# Altium schematic symbol library LED_symbol.SchLib: 1 symbol
Pins are listed as number, name and electrical type; pins without a type are passive.

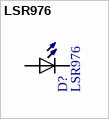
[diagram p0: symbol LSR976]

## LSR976
designator D?
SMD LED [Osram Semiconductors] LSR976 SMD LED; MF: OSRAM Opto; MP: LSR976; Package: 0805 Osram; Price: None; SnapEDA_Link: https://www.snapeda.com/parts/LSR976/OSRAM%20Opto%20Semiconductors%20Inc./view-part/?ref=snap; Availability: Unavailable; Value: *
pins: 1 A, 2 C